# Altium footprint library LibreriaComponentes.PcbLib: 38 footprints (part 2 of 3)
Each footprint in its own frame and in the unit in brackets; x right, y up, seen from the top. Pads: shape width x height; smd on the part's side, far side on the other; paste and mask are expansions set on the pad; w line width, h text height; cw(c..) or ccw(c..) is an arc to the next point about the centre after c.
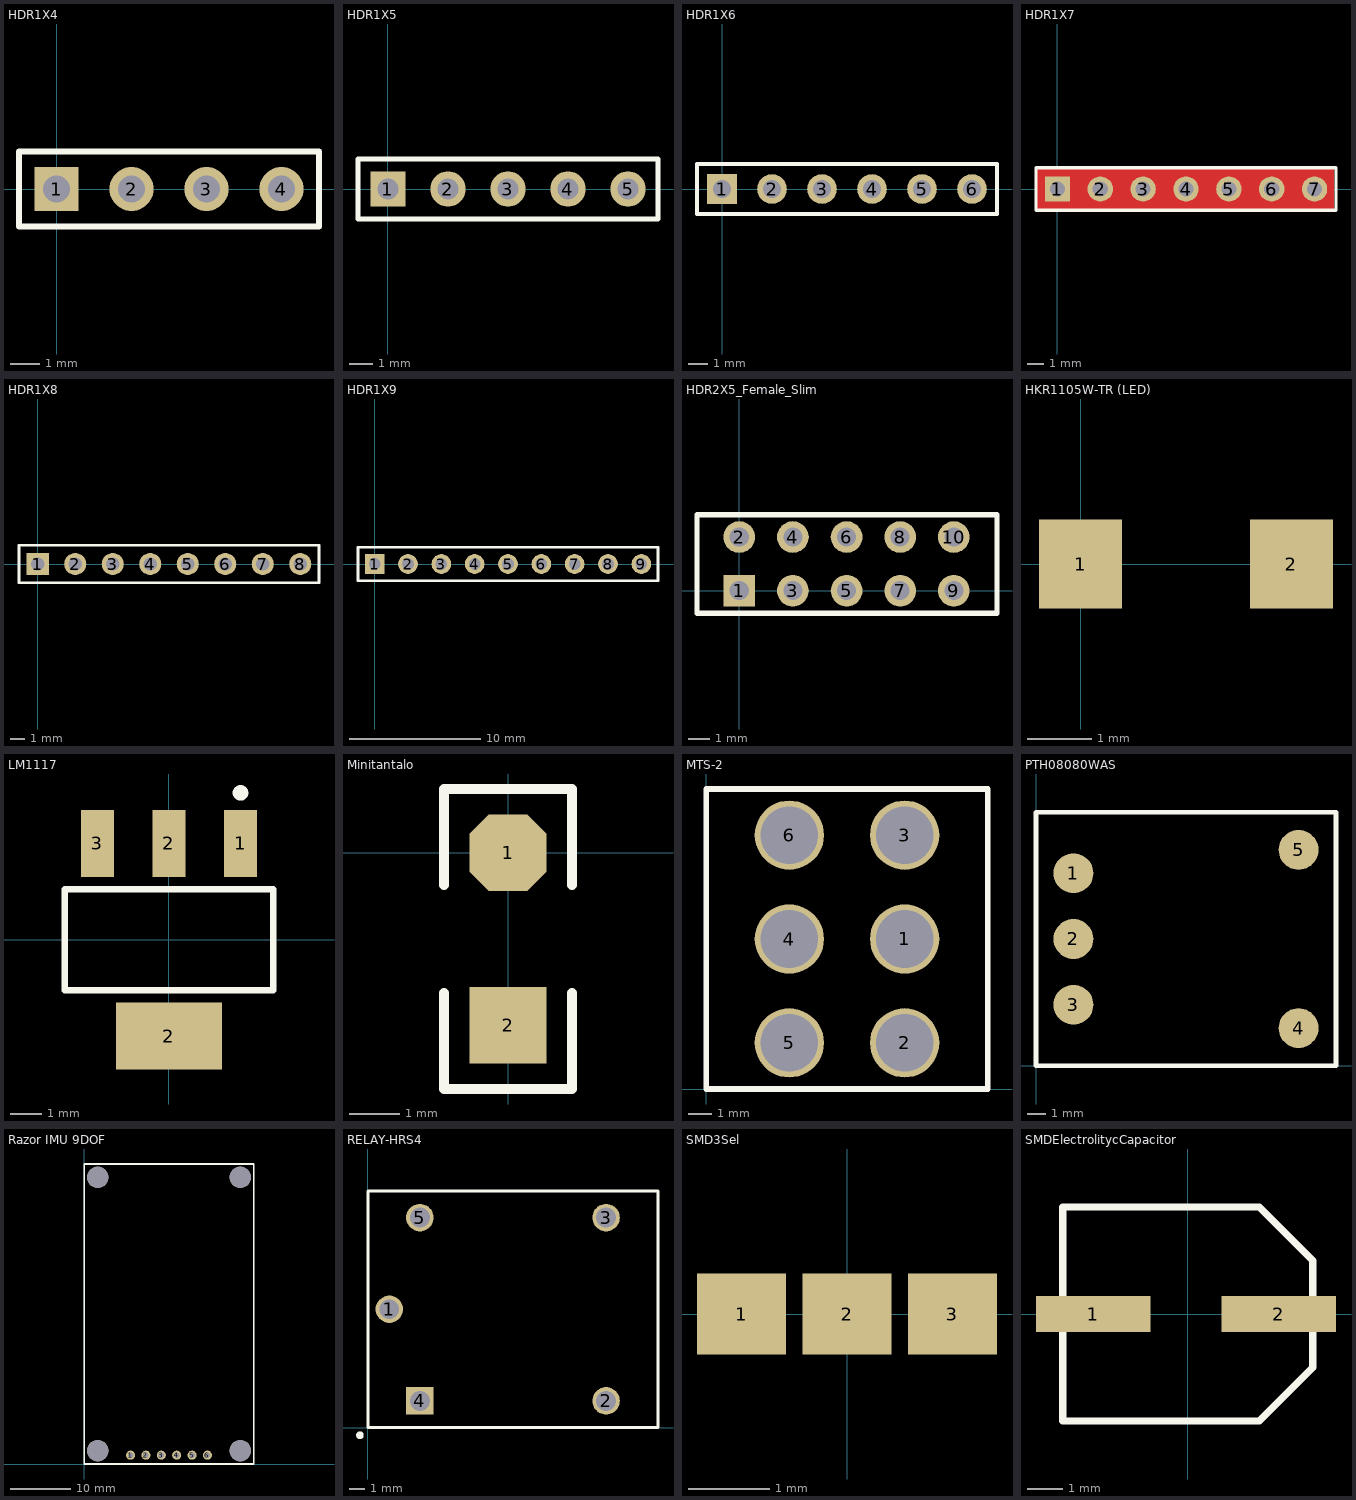
[diagram p1: the footprints below, top view; thin cyan lines are the x and y axes]

## HDR1X4 [mm] "Connector; Header; 4 Position"
pads (4):
  rect 1.5x1.5 hole 0.9: 1(0,0)
  round 1.5 hole 0.9: 2(2.54,0) 3(5.08,0) 4(7.62,0)
Top Overlay:
  lines w0.2: -1.27,-1.27 -1.27,1.27 8.89,1.27 8.89,-1.27 -1.27,-1.27

## HDR1X5 [mm] "Connector; Header; 5 Position"
pads (5):
  rect 1.5x1.5 hole 0.9: 1(0,0)
  round 1.5 hole 0.9: 2(2.54,0) 3(5.08,0) 4(7.62,0) 5(10.16,0)
Top Overlay:
  lines w0.2: -1.27,-1.27 -1.27,1.27 11.43,1.27 11.43,-1.27 -1.27,-1.27

## HDR1X6 [mm] "Connector; Header; 7 Position"
pads (6):
  rect 1.5x1.5 hole 0.9: 1(0,0)
  round 1.5 hole 0.9: 2(2.54,0) 3(5.08,0) 4(7.62,0) 5(10.16,0) 6(12.7,0)
Top Overlay:
  lines w0.2: -1.27,-1.27 13.97,-1.27 13.97,1.27 -1.27,1.27 -1.27,-1.27

## HDR1X7 [mm] "Connector; Header; 7 Position"
pads (7):
  rect 1.5x1.5 hole 0.9: 1(0,0)
  round 1.5 hole 0.9: 2(2.54,0) 3(5.08,0) 4(7.62,0) 5(10.16,0) 6(12.7,0) 7(15.24,0)
Top Layer:
  rectangle: -1.2,-1.2 16.4,1.2
Top Overlay:
  lines w0.2: -1.27,-1.27 16.51,-1.27 16.51,1.27 -1.27,1.27 -1.27,-1.27

## HDR1X8 [mm] "Connector; Header; 9 Position"
pads (8):
  rect 1.5x1.5 hole 0.9: 1(0,0)
  round 1.5 hole 0.9: 2(2.54,0) 3(5.08,0) 4(7.62,0) 5(10.16,0) 6(12.7,0) 7(15.24,0) 8(17.78,0)
Top Overlay:
  lines w0.2: -1.27,-1.27 -1.27,1.27 19.05,1.27 19.05,-1.27 -1.27,-1.27

## HDR1X9 [mm] "Connector; Header; 9 Position"
pads (9):
  rect 1.5x1.5 hole 0.9: 1(0,0)
  round 1.5 hole 0.9: 2(2.54,0) 3(5.08,0) 4(7.62,0) 5(10.16,0) 6(12.7,0) 7(15.24,0) 8(17.78,0) 9(20.32,0)
Top Overlay:
  lines w0.2: -1.27,-1.27 -1.27,1.27 21.59,1.27 21.59,-1.27 -1.27,-1.27

## HDR2X5_Female_Slim [mm] "Connector; Header; 5x2 Housing"
height 9.1
pads (10):
  rect 1.5x1.5 hole 0.9: 1(0,0)
  round 1.5 hole 0.9: 2(0,2.54) 3(2.54,0) 4(2.54,2.54) 5(5.08,0) 6(5.08,2.54) 7(7.62,0) 8(7.62,2.54) 9(10.16,0) 10(10.16,2.54)
Top Overlay:
  lines w0.254: -2,-1.075 -2,3.6 12.2,3.6 12.2,-1.075 -2,-1.075

## HKR1105W-TR (LED) [mm] "Chip Capacitor; Body 1.6 x 0.8 mm (LxW typ)"
height 1.35
pads (2):
  rect 1.3x1.4 smd: 1(0,0) 2(3.3,0)

## LM1117 [mm]
pads (4):
  rect 1.05x2.15 smd: 1(2.3,3.1) 2(0,3.1) 3(-2.3,3.1)
  rect 3.4x2.15 smd: 2(0,-3.1)
Top Overlay:
  circle w0.25: c2.3,4.725 r0.125
  lines w0.2: -3.35,-1.625 3.35,-1.625 3.35,1.625 -3.35,1.625 -3.35,-1.625

## Minitantalo [mil]
pads (2):
  oct 60x60 smd: 1(0,0)
  rect 60x60 smd: 2(0,-135)
Top Overlay:
  lines w7.87: -50,-110 -50,-185 50,-185 50,-110 ; -50,-25 -50,50 50,50 50,-25

## MTS-2 [mm]
pads (6):
  round 3 hole 2.5: 1(8.6,6.5) 2(8.6,2) 3(8.6,11) 4(3.6,6.5) 5(3.6,2) 6(3.6,11)
Top Overlay:
  lines w0.254: 0,0 12.2,0 12.2,13 0,13 0,0

## PTH08080WAS [mm]
pads (5):
  round 2.16 smd: 1(2.03,10.42) 2(2.03,6.86) 3(2.03,3.3) 4(14.22,2.035) 5(14.22,11.685)
Top Overlay:
  lines w0.254: 0,0 16.25,0 16.25,13.72 0,13.72 0,0

## Razor IMU 9DOF [mm]
pads (10):
  round 1.5 hole 0.9: 1(7.62,1.46) 2(10.16,1.46) 3(12.7,1.46) 4(15.24,1.46) 5(17.78,1.46) 6(20.32,1.46)
  round 3.5 hole 3.5: ""(2.2,2.2) ""(2.2,47.33) ""(25.74,2.2) ""(25.74,47.33)
Top Overlay:
  lines w0.254: 0,0 27.94,0 27.94,49.53 0,49.53 0,0

## RELAY-HRS4 [mm] "DIP; 5 Round Pins; Row Space 15.24 mm; Pitch 2.54 mm"
height 14
pads (5):
  round 1.8 hole 1.3: 1(1.4,7.75) 2(15.6,1.75) 3(15.6,13.75) 5(3.4,13.75)
  rect 1.8x1.8 hole 1.3: 4(3.4,1.75)
Top Overlay:
  circle w0.25: c-0.525,-0.5 r0.125
  lines w0.2: 0,0 19,0 19,15.5 0,15.5 0,0

## SMD3Sel [mm]
pads (3):
  rect 1.1x1 smd: 1(-1.3,0) 2(0,0) 3(1.3,0)

## SMDElectrolitycCapacitor [mm]
pads (2):
  rect 3.2x1 smd: 1(-2.65,0) 2(2.55,0)
Top Overlay:
  lines w0.2: -3.5,-3 2,-3 3.5,-1.5 3.5,1.5 2,3 -3.5,3 -3.5,-3
3D body: height 0.5, standoff 0, extent -3.4,-2.9 3.4,2.9
3D body: height 5.8, standoff 0.5, extent -3.15,-3.094 3.125,3.194